# EAGLE library part PINHEAD_1X09 (library pinhead)
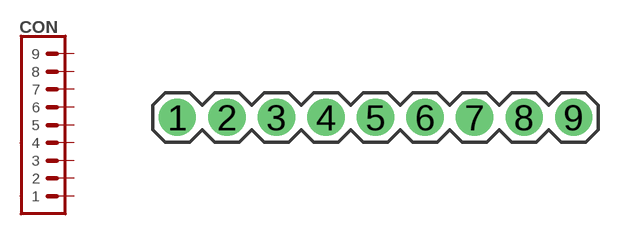
[diagram p11: symbol with the pads of 1X09-PTH_2; footprint 1X09-PTH_2]

Designator prefix CON

## PINHEAD_1X09-2  [1X09-PTH_2]
1  1  pas
2  2  pas
3  3  pas
4  4  pas
5  5  pas
6  6  pas
7  7  pas
8  8  pas
9  9  pas

## Footprint 1X09-PTH_2 (pad centres in mm)
drill 0.8 pad 1.5: 1 -8,0; 2 -6,0; 3 -4,0; 4 -2,0; 5 0,0; 6 2,0; 7 4,0; 8 6,0; 9 8,0